# Altium schematic symbol library ICs-MotorDrivers.SchLib: 4 symbols
Pins are listed as number, name and electrical type; pins without a type are passive.

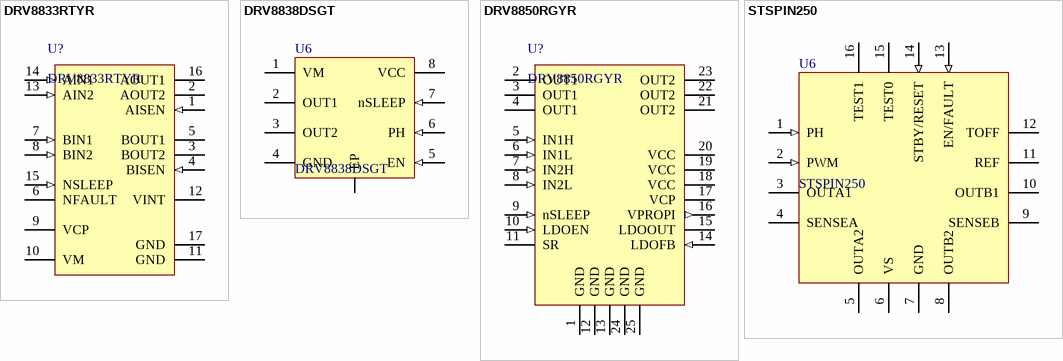
[diagram p0: symbols DRV8833RTYR to STSPIN250]

## DRV8833RTYR
designator U?
Manufacturer: Texas Instruments; PartNumber: DRV8833RTYR; Mounting Technology: Surface Mount; PackageReference: QFN-16
footprint QFN-16 (0.65mm) (QFN, 16-Leads, Body 4.00x4.00mm, Pitch 0.65mm, Thermal Pad 2.10x2.10mm, IPC Medium Density)
pins: 1 AISEN (in) "Bridge A ground / Isense", 2 AOUT2 (hiz) "Bridge A output 2", 3 BOUT2 (hiz) "Bridge B output 2", 4 BISEN (in) "Bridge B ground / Isense", 5 BOUT1 (hiz) "Bridge B output 1", 6 NFAULT (oc) "Fault output", 7 BIN1 (in) "Bridge B input 1", 8 BIN2 (in) "Bridge B input 2", 9 VCP "High-side gate drive voltage", 10 VM (power) "Device power supply", 11 GND (power) "Device ground", 12 VINT "Internal supply bypass", 13 AIN2 (in) "Bridge A input 2", 14 AIN1 (in) "Bridge A input 1", 15 NSLEEP (in) "Sleep mode input", 16 AOUT1 (hiz) "Bridge A output 1", 17 GND (power)

## DRV8838DSGT
designator U6
Half Bridge (2) Driver DC Motors, Solenoids NMOS 8-WSON (2x2); Manufacturer: Texas Instruments; PartNumber: DRV8838DSGT; Mounting Technology: Surface Mount; PackageReference: WSON-8
footprint WSON-8 (SON, 8-Leads, Body 2.00x2.00mm, Pitch 0.50mm, Thermal Pad 1.60x0.69mm, IPC Medium Density)
pins: 1 VM (power) "Motor speed indication output", 2 OUT1 (hiz) "Internal regulator output (for decoupling only)", 3 OUT2 (hiz) "Single-phase coil output pin", 4 GND (power) "Negative voltage supply (ground)", 5 EN (in) "PWM input signal for speed control", 6 PH (in) "Positive voltage supply for motor driver", 7 nSLEEP (in) "Single-phase coil output pin", 8 VCC (power) "Single-phase coil output pin", 9 EP

## DRV8850RGYR
designator U?
IC MOTOR DRIVER PAR 24VQFN; Manufacturer: Texas Instruments; PartNumber: DRV8850RGYR; Mounting Technology: Surface Mount; PackageReference: QFN-24
footprint VQFN-24 (5.5X3.5MM) (QFN, 24-Leads, Body 3.50x5.50mm, Pitch 1.50mm/0.50mm, Thermal Pad 2.26x2.44mm, IPC Medium Density)
pins: 1 GND (power), 2 OUT1 (power), 3 OUT1 (power), 4 OUT1 (power), 5 IN1H (in), 6 IN1L (in), 7 IN2H (in), 8 IN2L (in), 9 nSLEEP (in), 10 LDOEN (in), 11 SR, 12 GND (power), 13 GND (power), 14 LDOFB (in), 15 LDOOUT (power), 16 VPROPI (out), 17 VCP (power), 18 VCC (power), 19 VCC (power), 20 VCC (power), 21 OUT2 (power), 22 OUT2 (power), 23 OUT2 (power), 24 GND (power), 25 GND (power)

## STSPIN250
designator U6
Manufacturer: STMicroelectronics; PartNumber: STSPIN250; Mounting Technology: Surface Mount; PackageReference: QFN-16
footprint QFN-16 (QFN, 16-Leads, Body 3.00x3.00mm, Pitch 0.50mm, Thermal Pad 1.80x1.80mm, IPC Medium Density); pin to pad 7>7+17
pins: 1 PH (in) "Positive voltage supply for motor driver", 2 PWM (in) "PWM input signal for speed control", 3 OUTA1 (hiz), 4 SENSEA (hiz), 5 OUTA2 (power), 6 VS (power), 7 GND (power), 8 OUTB2 (hiz), 9 SENSEB (hiz) "Internal regulator output (for decoupling only)", 10 OUTB1 (hiz), 11 REF (hiz), 12 TOFF (hiz), 13 EN/FAULT (in) "Single-phase coil output pin", 14 STBY/RESET (in) "Single-phase coil output pin", 15 TEST0 (power) "Single-phase coil output pin", 16 TEST1 (power) "Single-phase coil output pin"